# Altium schematic symbol library Schlib.SchLib: 31 symbols
Pins are listed as number, name and electrical type; pins without a type are passive.

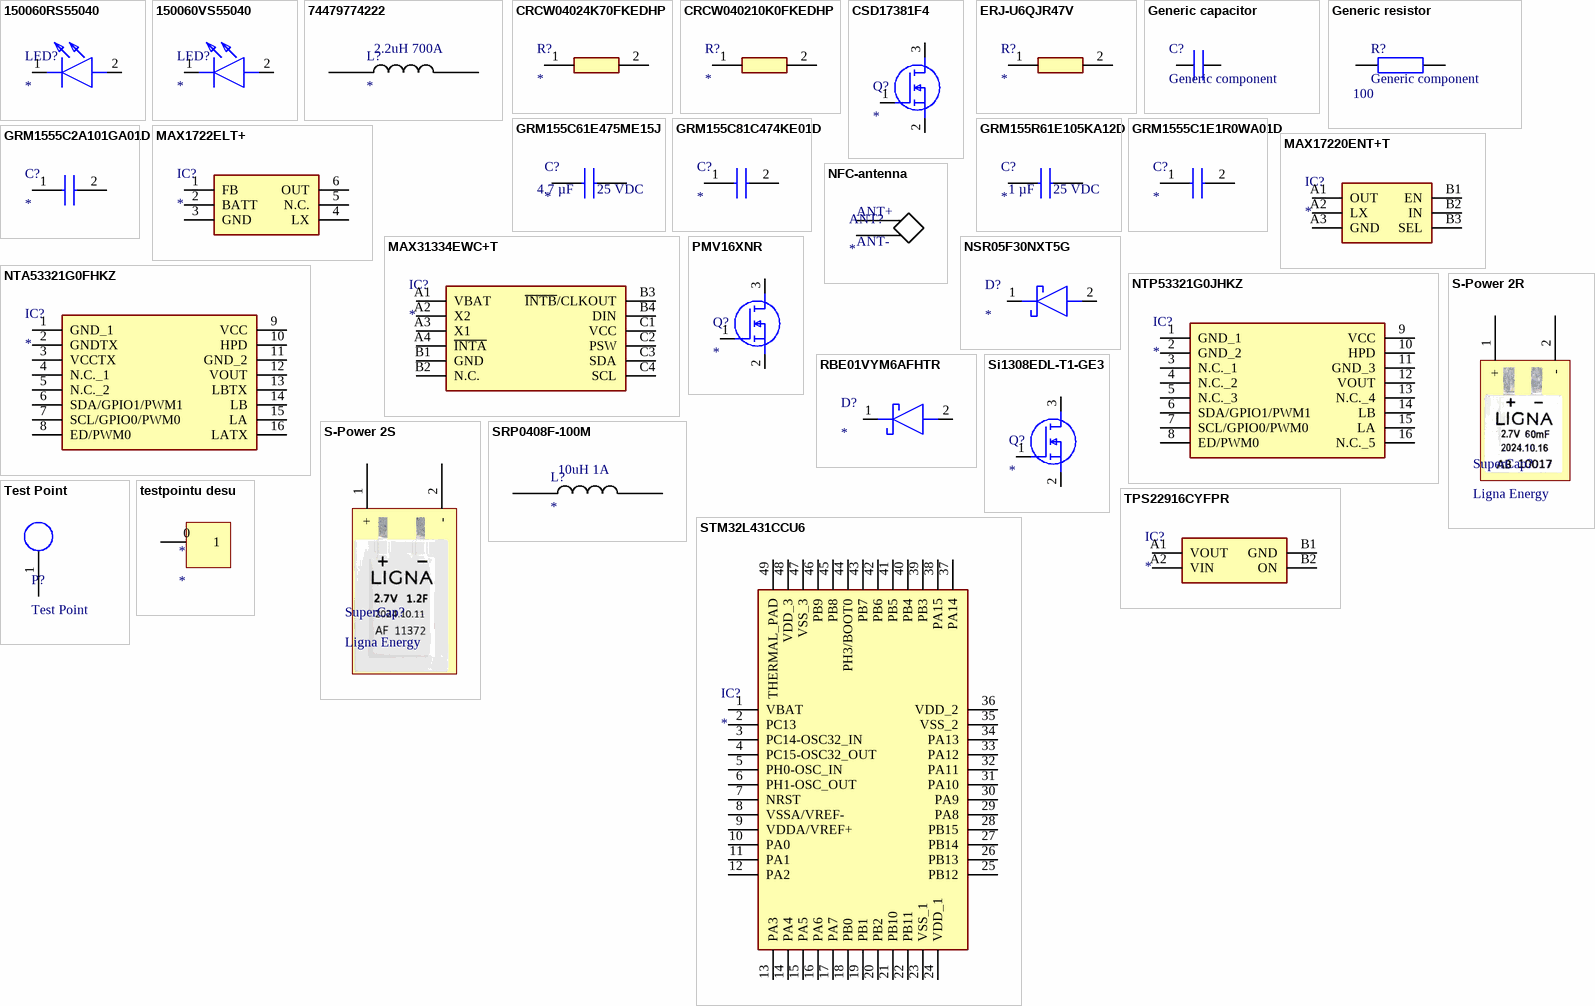
[diagram p0: symbols 150060RS55040 to TPS22916CYFPR]

## 150060RS55040
designator LED?
LED; Manufacturer_Name: Wurth Elektronik; Manufacturer_Part_Number: 150060RS55040; Datasheet Link: http://katalog.we-online.de/led/datasheet/150060RS55040.pdf; Height: 0mm; Mouser Part Number: 710-150060RS55040; Mouser Price/Stock: https://www.mouser.co.uk/ProductDetail/Wurth-Elektronik/150060RS55040?qs=8Aam6%252B7C6HHnMZFlrlTntA%3D%3D
footprint 150060RS55040
pins: 1 K, 2 A

## 150060VS55040
designator LED?
LED; Manufacturer_Name: Wurth Elektronik; Manufacturer_Part_Number: 150060VS55040; Datasheet Link: https://katalog.we-online.com/led/datasheet/150060VS55040.pdf; Height: 0.5mm; Mouser Part Number: 710-150060VS55040; Mouser Price/Stock: https://www.mouser.co.uk/ProductDetail/Wurth-Elektronik/150060VS55040?qs=8Aam6%252B7C6HEumg%252B0cJZzvA%3D%3D
footprint LEDM168X50N
pins: 1 K, 2 A

## 74479774222
designator L?  Rating: 2.2uH 700A
Inductor-WE
footprint WE-PMI_080562
pins: 1, 2

## CRCW04024K70FKEDHP
designator R?
Resistor; Manufacturer_Name: Vishay; Manufacturer_Part_Number: CRCW04024K70FKEDHP; Datasheet Link: http://www.vishay.com/docs/20035/dcrcwe3.pdf; Height: 0.4mm; Mouser Part Number: 71-CRCW04024K70FKEDH; Mouser Price/Stock: https://www.mouser.co.uk/ProductDetail/Vishay-Dale/CRCW04024K70FKEDHP?qs=k2%2FDWSARqgH3ASlI4vM3KQ%3D%3D; Arrow Part Number: CRCW04024K70FKEDHP; Arrow Price/Stock: https://www.arrow.com/en/products/crcw04024k70fkedhp/vishay?utm_currency=USD&region=nac
footprint RESC1005X40N
pins: 1, 2

## CRCW040210K0FKEDHP
designator R?
Resistor; Manufacturer_Name: Vishay; Manufacturer_Part_Number: CRCW040210K0FKEDHP; Datasheet Link: http://www.vishay.com/docs/20035/dcrcwe3.pdf; Height: 0.4mm; Mouser Part Number: 71-CRCW040210K0FKEDH; Mouser Price/Stock: https://www.mouser.co.uk/ProductDetail/Vishay-Dale/CRCW040210K0FKEDHP?qs=FlFvgi4rxBxmIiaeyFjrkA%3D%3D; Arrow Part Number: CRCW040210K0FKEDHP; Arrow Price/Stock: https://www.arrow.com/en/products/crcw040210k0fkedhp/vishay?utm_currency=USD&region=nac
footprint RESC1005X40N
pins: 1, 2

## CSD17381F4
designator Q?
MOSFET (N-Channel); Manufacturer_Name: Texas Instruments; Manufacturer_Part_Number: CSD17381F4; Datasheet Link: https://www.ti.com/lit/gpn/csd17381f4?HQS=ti-null-null-sf-df-pf-sep-wwe&DCM=yes?hkey=EF798316E3902B6ED9A73243A3159BB0; Height: 0.36mm; Mouser Part Number: 595-CSD17381F4; Mouser Price/Stock: https://www.mouser.co.uk/ProductDetail/Texas-Instruments/CSD17381F4?qs=aG%252B9dtamCDf9%2FrYwJezivw%3D%3D
footprint CSD17381F4
pins: 1 G, 2 S, 3 D

## ERJ-U6QJR47V
designator R?
Resistor; Manufacturer_Name: Panasonic; Manufacturer_Part_Number: ERJ-U6QJR47V; Datasheet Link: https://industrial.panasonic.com/cdbs/www-data/pdf/RDP0000/AOA0000C334.pdf; Height: 0.65mm; Mouser Part Number: 667-ERJ-U6QJR47V; Mouser Price/Stock: https://www.mouser.co.uk/ProductDetail/Panasonic/ERJ-U6QJR47V?qs=5aG0NVq1C4wLyK2PwyO%252BIA%3D%3D
footprint RESC2012X65N
pins: 1, 2

## Generic capacitor
designator C?, comment Generic component
ComponentLink1Description: New link; ComponentLink1URL: https://www.mouser.se/
footprint CAPC1005X70N
pins: 1, 2

## Generic resistor
designator R?, comment Generic component  resistance: 100
footprint RESC2012X65N
footprint RESC1005X40N
pins: 1, 2

## GRM155C61E475ME15J
designator C?  Rated Voltage: 25 VDC  Capacitance: 4.7 µF
Capacitor; Manufacturer_Name: Murata Electronics; Manufacturer_Part_Number: GRM155C61E475ME15J; Datasheet Link: https://search.murata.co.jp/Ceramy/image/img/A01X/G101/ENG/GRM155C61E475ME15-01A.pdf; Height: 0.5mm; Mouser Part Number: 81-GRM15C61E475ME15J; Mouser Price/Stock: https://www.mouser.co.uk/ProductDetail/Murata-Electronics/GRM155C61E475ME15J?qs=By6Nw2ByBD02p8xq06vhEQ%3D%3D; Arrow Part Number: GRM155C61E475ME15J; Arrow Price/Stock: https://www.arrow.com/en/products/grm155c61e475me15j/murata-manufacturing?region=nac
footprint GRM15x
pins: 1, 2

## GRM155C81C474KE01D
designator C?
Capacitor; Manufacturer_Name: Murata Electronics; Manufacturer_Part_Number: GRM155C81C474KE01D; Datasheet Link: https://search.murata.co.jp/Ceramy/image/img/A01X/G101/ENG/GRM155C81C474KE01-01A.pdf; Height: 0.7mm; Mouser Part Number: 81-GRM155C81C474KE1D; Mouser Price/Stock: https://www.mouser.com/Search/Refine.aspx?Keyword=81-GRM155C81C474KE1D
footprint CAPC1005X70N
pins: 1, 2

## GRM155R61E105KA12D
designator C?  Rated Voltage: 25 VDC  Capacitance: 1 µF
Capacitor; Manufacturer_Name: Murata Electronics; Manufacturer_Part_Number: GRM155R61E105KA12D; Datasheet Link: https://search.murata.co.jp/Ceramy/image/img/A01X/G101/ENG/GRM155R61E105KA12-01A.pdf; Height: 0.55mm; Mouser Part Number: 81-GRM155R61E105KA2D; Mouser Price/Stock: https://www.mouser.co.uk/ProductDetail/Murata-Electronics/GRM155R61E105KA12D?qs=hiffU4J9V6bE4a81t2Mv5A%3D%3D; Arrow Part Number: GRM155R61E105KA12D; Arrow Price/Stock: https://www.arrow.com/en/products/grm155r61e105ka12d/murata-manufacturing?region=nac
footprint CAPC1005X55N
pins: 1, 2

## GRM1555C1E1R0WA01D
designator C?
Capacitor; Manufacturer_Name: Murata Electronics; Manufacturer_Part_Number: GRM1555C1E1R0WA01D; Datasheet Link: http://www.murata.com/~/media/webrenewal/support/library/catalog/products/capacitor/mlcc/c02e.pdf; Height: 0.7mm
footprint CAPC1005X70N
pins: 1, 2

## GRM1555C2A101GA01D
designator C?
Capacitor; Manufacturer_Name: Murata Electronics; Manufacturer_Part_Number: GRM1555C2A101GA01D; Datasheet Link: https://search.murata.co.jp/Ceramy/image/img/A01X/G101/ENG/GRM1555C2A101GA01-01A.pdf; Height: 0.7mm; Mouser Part Number: 81-GRM1555C2A101GA1D; Mouser Price/Stock: https://www.mouser.co.uk/ProductDetail/Murata-Electronics/GRM1555C2A101GA01D?qs=hNud%2FORuBR2mSE1RPo5yOg%3D%3D
footprint CAPC1005X70N
pins: 1, 2

## MAX1722ELT+
designator IC?
Integrated Circuit; Manufacturer_Name: Analog Devices; Manufacturer_Part_Number: MAX1722ELT+; Datasheet Link: http://www.farnell.com/datasheets/2117952.pdf; Height: 0.8mm; Mouser Part Number: 700-MAX1722ELT+; Mouser Price/Stock: https://www.mouser.com/Search/Refine.aspx?Keyword=700-MAX1722ELT%2B
footprint MAX17220ALT
pins: 1 FB, 2 BATT, 3 GND, 4 LX, 5 N.C., 6 OUT

## MAX17220ENT+T
designator IC?
Integrated Circuit; Manufacturer_Name: Analog Devices; Manufacturer_Part_Number: MAX17220ENT+T; Datasheet Link: https://www.analog.com/MAX17220/datasheet; Height: 0.5mm; Mouser Part Number: 700-MAX17220ENT+T; Mouser Price/Stock: https://www.mouser.co.uk/ProductDetail/Analog-Devices-Maxim-Integrated/MAX17220ENT%2bT?qs=BZBei1rCqCAO5QX%2FSv6p6w%3D%3D; Arrow Part Number: MAX17220ENT+T; Arrow Price/Stock: https://www.arrow.com/en/products/max17220entt/analog-devices?region=nac
footprint BGA6C40P3X2_142X89X50
pins: A1 OUT, A2 LX, A3 GND, B1 EN, B2 IN, B3 SEL

## MAX31334EWC+T
designator IC?
Integrated Circuit; Manufacturer_Name: Analog Devices; Manufacturer_Part_Number: MAX31334EWC+T; Datasheet Link: https://www.analog.com/MAX31334/datasheet; Height: 0.69mm; Mouser Part Number: 700-MAX31334EWC+T; Mouser Price/Stock: https://www.mouser.co.uk/ProductDetail/Analog-Devices-Maxim-Integrated/MAX31334EWC%2bT?qs=vvQtp7zwQdOckJhTSGVMeA%3D%3D; Arrow Part Number: MAX31334EWC+T; Arrow Price/Stock: https://www.arrow.com/en/products/max31334ewct/analog-devices?region=nac
footprint BGA12C50P4X3_197X147X69
pins: A1 VBAT, A2 X2, A3 X1, A4 ~{INTA}, B1 GND, B2 N.C., B3 ~{INTB}/CLKOUT, B4 DIN, C1 VCC, C2 PSW, C3 SDA, C4 SCL

## NFC-antenna
designator ANT?
footprint Antenna1
pins: 0 +, 1 -
text: ANT+; ANT-

## NSR05F30NXT5G
designator D?
Schottky Diode; Manufacturer_Name: onsemi; Manufacturer_Part_Number: NSR05F30NXT5G; Datasheet Link: https://www.onsemi.com/pub/Collateral/NSR05F30.PDF; Height: 0.31mm; Mouser Part Number: 863-NSR05F30NXT5G; Mouser Price/Stock: https://www.mouser.co.uk/ProductDetail/onsemi/NSR05F30NXT5G?qs=Ddzdinyxz%2FkBCezibUxhIA%3D%3D; Arrow Part Number: NSR05F30NXT5G; Arrow Price/Stock: https://www.arrow.com/en/products/nsr05f30nxt5g/on-semiconductor?region=nac
footprint NSR05F30NXT5G
pins: 1 K, 2 A

## NTA53321G0FHKZ
designator IC?
Integrated Circuit; Manufacturer_Name: NXP; Manufacturer_Part_Number: NTA53321G0FHKZ; Datasheet Link: https://www.mouser.co.il/datasheet/2/302/NTA5332-1815294.pdf; Height: 0.5mm; Mouser Part Number: 771-NTA53321G0FHKZ; Mouser Price/Stock: https://www.mouser.co.uk/ProductDetail/NXP-Semiconductors/NTA53321G0FHKZ?qs=OlC7AqGiEDk3OpnM8pXHAA%3D%3D; Arrow Part Number: NTA53321G0FHKZ; Arrow Price/Stock: https://www.arrow.com/en/products/nta53321g0fhkz/nxp-semiconductors?region=nac
footprint NTA53321G0FHKZ
pins: 1 GND_1, 2 GNDTX, 3 VCCTX, 4 N.C._1, 5 N.C._2, 6 SDA/GPIO1/PWM1, 7 SCL/GPIO0/PWM0, 8 ED/PWM0, 9 VCC, 10 HPD, 11 GND_2, 12 VOUT, 13 LBTX, 14 LB, 15 LA, 16 LATX

## NTP53321G0JHKZ
designator IC?
Integrated Circuit; Manufacturer_Name: NXP; Manufacturer_Part_Number: NTP53321G0JHKZ; Datasheet Link: https://www.nxp.com/docs/en/data-sheet/NTP53x2.pdf; Height: 0.5mm; Mouser Part Number: 771-NTP53321G0JHKZ; Mouser Price/Stock: https://www.mouser.co.uk/ProductDetail/NXP-Semiconductors/NTP53321G0JHKZ?qs=u16ybLDytRYy2Rt%2Fib73Dw%3D%3D; Arrow Part Number: NTP53321G0JHKZ; Arrow Price/Stock: https://www.arrow.com/en/products/ntp53321g0jhkz/nxp-semiconductors?region=nac
footprint NTP53321G0JHKZ
pins: 1 GND_1, 2 GND_2, 3 N.C._1, 4 N.C._2, 5 N.C._3, 6 SDA/GPIO1/PWM1, 7 SCL/GPIO0/PWM0, 8 ED/PWM0, 9 VCC, 10 HPD, 11 GND_3, 12 VOUT, 13 N.C._4, 14 LB, 15 LA, 16 N.C._5

## PMV16XNR
designator Q?
MOSFET (N-Channel); Manufacturer_Name: Nexperia; Manufacturer_Part_Number: PMV16XNR; Datasheet Link: https://assets.nexperia.com/documents/data-sheet/PMV16XN.pdf; Height: 1.1mm; Mouser Part Number: 771-PMV16XNR; Mouser Price/Stock: https://www.mouser.co.uk/ProductDetail/Nexperia/PMV16XNR?qs=%252BRKXB2WKlSfp5fVW5DDV6w%3D%3D; Arrow Part Number: PMV16XNR; Arrow Price/Stock: https://www.arrow.com/en/products/pmv16xnr/nexperia?region=nac
footprint SOT95P230X110-3N
pins: 1 G, 2 S, 3 D

## RBE01VYM6AFHTR
designator D?
Schottky Diode; Manufacturer_Name: ROHM Semiconductor; Manufacturer_Part_Number: RBE01VYM6AFHTR; Datasheet Link: https://www.digikey.ph/en/products/detail/rohm-semiconductor/RBE01VYM6AFHTR/24634517; Height: 0.8mm; Mouser Part Number: 755-RBE01VYM6AFHTR; Mouser Price/Stock: https://www.mouser.co.uk/ProductDetail/ROHM-Semiconductor/RBE01VYM6AFHTR?qs=VVKQmw408U8czvswzPLZtQ%3D%3D
footprint RBE01VYM6AFHTR
pins: 1 K, 2 A

## S-Power 2R
designator SuperCap?, comment Ligna Energy
footprint S-Power 2R
pins: 1 +, 2 -

## S-Power 2S
designator SuperCap?, comment Ligna Energy
footprint S-Power 2S
pins: 1 +, 2 -

## Si1308EDL-T1-GE3
designator Q?
MOSFET (N-Channel); Manufacturer_Name: Vishay; Manufacturer_Part_Number: Si1308EDL-T1-GE3; Datasheet Link: https://componentsearchengine.com/Datasheets/1/SI1308EDL-T1-GE3.pdf; Height: 1.1mm; Mouser Part Number: 78-SI1308EDL-T1-GE3; Mouser Price/Stock: https://www.mouser.co.uk/ProductDetail/Vishay-Semiconductors/SI1308EDL-T1-GE3?qs=bX1%252BNvsK%2FBramh9tgpOaEw%3D%3D; Arrow Part Number: SI1308EDL-T1-GE3; Arrow Price/Stock: https://www.arrow.com/en/products/si1308edl-t1-ge3/vishay?utm_currency=USD&region=nac
footprint SOT65P210X110-3N
pins: 1 G, 2 S, 3 D

## SRP0408F-100M
designator L?  Rating: 10uH 1A
Inductor-BOURNS
footprint INDPM4341X80N
pins: 1, 2

## STM32L431CCU6
designator IC?
Integrated Circuit; Manufacturer_Name: STMicroelectronics; Manufacturer_Part_Number: STM32L431CCU6; Datasheet Link: http://www.st.com/content/ccc/resource/technical/document/datasheet/group3/83/b3/60/f6/b1/cc/47/7e/DM00257211/files/DM00257211.pdf/jcr:content/translations/en.DM00257211.pdf; Height: 0.6mm; Mouser Part Number: 511-STM32L431CCU6; Mouser Price/Stock: https://www.mouser.co.uk/ProductDetail/STMicroelectronics/STM32L431CCU6?qs=U58vgkJzipRWiXTJcDrRbg%3D%3D; Arrow Part Number: STM32L431CCU6; Arrow Price/Stock: https://www.arrow.com/en/products/stm32l431ccu6/stmicroelectronics?region=nac
footprint QFN50P700X700X60-49N-D
pins: 1 VBAT, 2 PC13, 3 PC14-OSC32_IN, 4 PC15-OSC32_OUT, 5 PH0-OSC_IN, 6 PH1-OSC_OUT, 7 NRST, 8 VSSA/VREF-, 9 VDDA/VREF+, 10 PA0, 11 PA1, 12 PA2, 13 PA3, 14 PA4, 15 PA5, 16 PA6, 17 PA7, 18 PB0, 19 PB1, 20 PB2, 21 PB10, 22 PB11, 23 VSS_1, 24 VDD_1, 25 PB12, 26 PB13, 27 PB14, 28 PB15, 29 PA8, 30 PA9, 31 PA10, 32 PA11, 33 PA12, 34 PA13, 35 VSS_2, 36 VDD_2, 37 PA14, 38 PA15, 39 PB3, 40 PB4, 41 PB5, 42 PB6, 43 PB7, 44 PH3/BOOT0, 45 PB8, 46 PB9, 47 VSS_3, 48 VDD_3, 49 THERMAL_PAD

## Test Point
designator P?  (no BOM)
footprint Test Point
pins: 1 P1

## testpointu desu
designator *
footprint Testupoint
pins: 0 1

## TPS22916CYFPR
designator IC?
Integrated Circuit; Manufacturer_Name: Texas Instruments; Manufacturer_Part_Number: TPS22916CYFPR; Datasheet Link: http://www.ti.com/lit/gpn/tps22916; Height: 0.5mm; Mouser Part Number: 595-TPS22916CYFPR; Mouser Price/Stock: https://www.mouser.co.uk/ProductDetail/Texas-Instruments/TPS22916CYFPR?qs=EU6FO9ffTweddKR4NsfVQg%3D%3D; Arrow Part Number: TPS22916CYFPR; Arrow Price/Stock: https://www.arrow.com/en/products/tps22916cyfpr/texas-instruments?utm_currency=USD&region=nac
footprint BGA4C40P2X2_78X78X50
pins: A1 VOUT, A2 VIN, B1 GND, B2 ON